# EAGLE library part S10P (library con-amp-mt)
AMP MT CONNECTOR
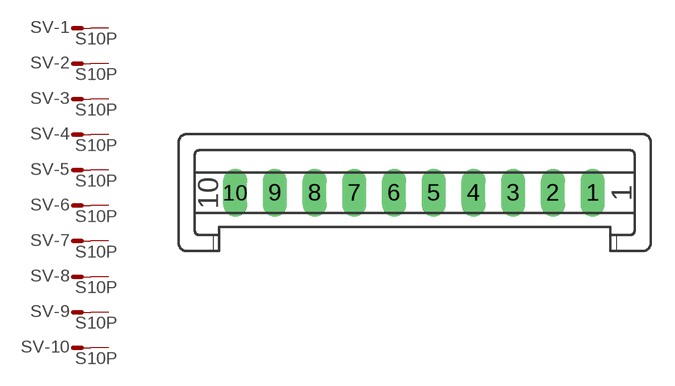
[diagram p19: symbol with the pads of S10P; footprint S10P]

Designator prefix SV; gates -1=M -2=M -3=M -4=M -5=M -6=M -7=M -8=M -9=M -10=M

## S10P (OC_FARNELL: unknown; OC_NEWARK: unknown)  [S10P]
1  -1:S  pas
2  -2:S  pas
3  -3:S  pas
4  -4:S  pas
5  -5:S  pas
6  -6:S  pas
7  -7:S  pas
8  -8:S  pas
9  -9:S  pas
10  -10:S  pas

## Footprint S10P (pad centres in mm)
AMP MT CONNECTOR
drill 1.016 long: 1 11.25,0; 2 8.75,0; 3 6.25,0; 4 3.75,0; 5 1.25,0; 6 -1.25,0; 7 -3.75,0; 8 -6.25,0; 9 -8.75,0; 10 -11.25,0